# Altium footprint library PowerSupplyPE.PcbLib: 19 footprints (part 1 of 2)
Each footprint in its own frame and in the unit in brackets; x right, y up, seen from the top. Pads: shape width x height; smd on the part's side, far side on the other; paste and mask are expansions set on the pad; w line width, h text height; cw(c..) or ccw(c..) is an arc to the next point about the centre after c.
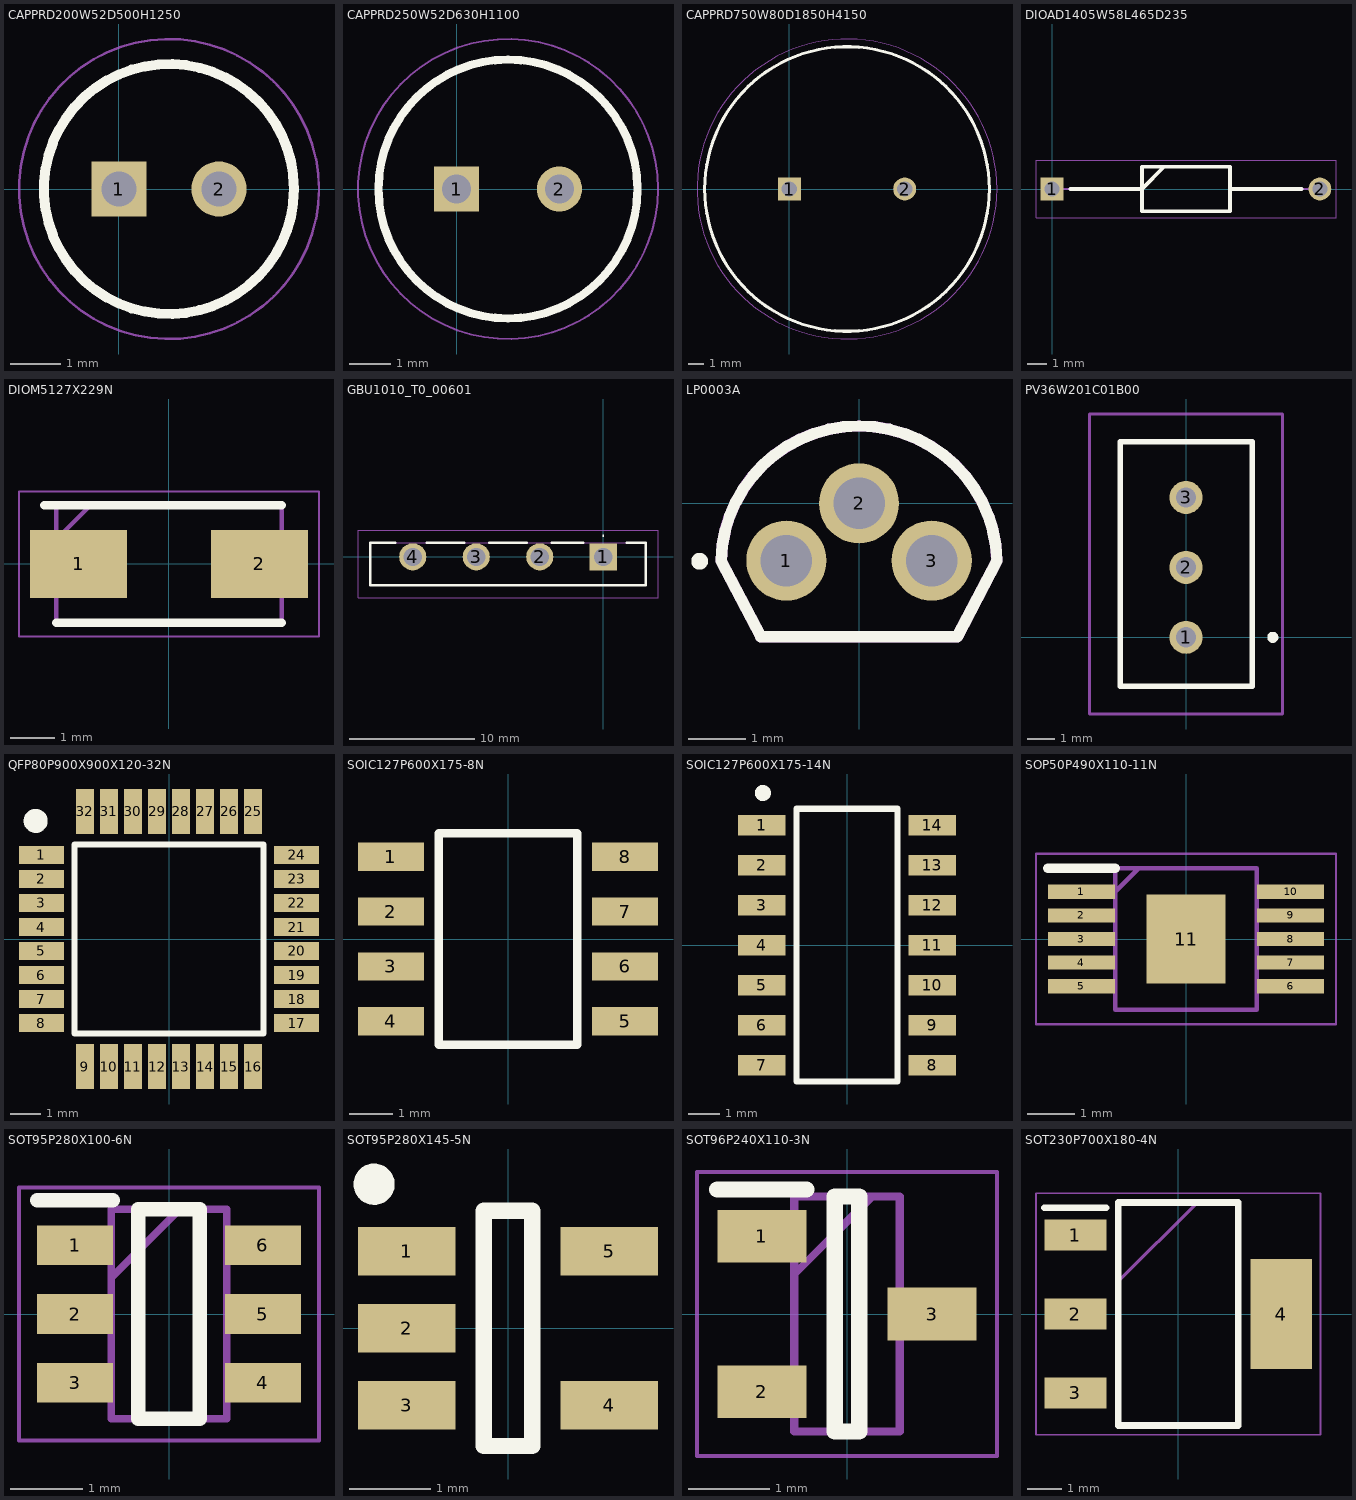
[diagram p0: the footprints below, top view; thin cyan lines are the x and y axes]

## CAPPRD200W52D500H1250 [mm]
pads (2):
  rect 1.1x1.1 hole 0.7: 1(0,0)
  round 1.1 hole 0.7: 2(2,0)
Top Overlay:
  circle w0.2: c1,0 r2.5
Mechanical 13:
  circle w0.1: c1,0 r2.5
Mechanical 15:
  circle w0.05: c1,0 r3
3D body "860010472002.stp": height 12.5, standoff -10, extent -1.738,-2.747 3.75,2.747

## CAPPRD250W52D630H1100 [mm]
pads (2):
  rect 1.1x1.1 hole 0.7: 1(0,0)
  round 1.1 hole 0.7: 2(2.5,0)
Top Overlay:
  circle w0.2: c1.25,0 r3.15
Mechanical 13:
  circle w0.1: c1.25,0 r3.15
Mechanical 15:
  circle w0.05: c1.25,0 r3.65
3D body "860020573007.stp": height 11, standoff -10, extent -2.138,-3.397 4.65,3.397

## CAPPRD750W80D1850H4150 [mm]
pads (2):
  rect 1.5x1.5 hole 1: 1(0,0)
  round 1.5 hole 1: 2(7.5,0)
Top Overlay:
  circle w0.2: c3.75,0 r9.25
Mechanical 13:
  circle w0.1: c3.75,0 r9.25
Mechanical 15:
  circle w0.05: c3.75,0 r9.75
3D body "50PK4700MEFC18X40.stp": height 41.5, standoff -10, extent -5.479,-9.245 13,9.245

## DIOAD1405W58L465D235 [mm]
pads (2):
  rect 1.2x1.2 hole 0.8: 1(0,0)
  round 1.2 hole 0.8: 2(14.1,0)
Top Overlay:
  lines w0.2: 0.95,0 4.725,0 5.9,1.175 ; 9.375,0 13.15,0 ; 4.725,-1.175 4.725,1.175 9.375,1.175 9.375,-1.175 4.725,-1.175
Mechanical 13:
  lines w0.1: 0,0 4.725,0 5.9,1.175 ; 9.375,0 14.1,0 ; 4.725,-1.175 4.725,1.175 9.375,1.175 9.375,-1.175 4.725,-1.175
Mechanical 15:
  lines w0.05: -0.85,-1.525 -0.85,1.525 14.95,1.525 14.95,-1.525 -0.85,-1.525
3D body "1N4007.stp": height 2.7, standoff -2.7, extent -0.29,-1.34 14.34,1.34

## DIOM5127X229N [mm]
pads (2):
  rect 2.2x1.55 smd: 1(-2.05,0) 2(2.05,0)
Top Overlay:
  lines w0.2: -2.825,1.332 2.552,1.332 ; -2.552,-1.332 2.552,-1.332
Mechanical 13:
  lines w0.1: -2.552,0.558 -1.778,1.332 ; -2.552,-1.332 2.552,-1.332 2.552,1.332 -2.552,1.332 -2.552,-1.332
Mechanical 15:
  lines w0.05: -3.4,-1.645 3.4,-1.645 3.4,1.645 -3.4,1.645 -3.4,-1.645
3D body "B340A-E3_61T.stp": height 2.29, standoff 0, extent -2.552,-1.332 2.552,1.332

## GBU1010_T0_00601 [mm]
pads (4):
  rect 2.175x2.175 hole 1.45: 1(0,0)
  round 2.175 hole 1.45: 2(-5.08,0) 3(-10.16,0) 4(-15.24,0)
Top Overlay:
  lines w0.1: 0,1.65 cw(c0,1.7) 0,1.75 cw(c0,1.7) 0,1.65
  lines w0.2: -16.62,1.13 -18.62,1.13 -18.62,-2.27 3.38,-2.27 3.38,1.13 1.88,1.13 ; -14.12,1.13 -11.12,1.13 ; -9.12,1.13 -6.12,1.13 ; -4.12,1.13 -1.62,1.13
Mechanical 13:
  lines w0.1: -18.62,-2.27 3.38,-2.27 3.38,1.13 -18.62,1.13 -18.62,-2.27
Mechanical 15:
  lines w0.1: -19.62,-3.27 4.38,-3.27 4.38,2.13 -19.62,2.13 -19.62,-3.27
3D body "GBU1010_T0_00601.stp": height 21.65, standoff -5, extent -18.62,-2.27 3.38,1.13

## LP0003A [mm]
pads (3):
  round 1.4 hole 0.9: 1(-1.27,-1) 2(0,0) 3(1.27,-1)
Top Overlay:
  circle w0.2: c-2.785,-1.013 r0.046
  lines w0.2: -2.41,-1 -1.715,-2.33 1.715,-2.33 2.41,-1 ; -2.41,-0.997 cw(c0,-1.06) 2.41,-1.001
Mechanical 13:
  lines w0.2: -2.41,-1.001 cw(c0,-1.06) 2.41,-0.997 ; -2.41,-1 -1.715,-2.33 1.715,-2.33 2.41,-1
3D body "LM334Z_LFT1.stp": height 8.27, standoff -9.77, extent -2.556,-2.645 2.636,1.545

## PV36W201C01B00 [mm]
pads (3):
  round 1.2 hole 0.74: 1(0,0) 2(0,2.54) 3(0,5.08)
Top Overlay:
  lines w0.2: -2.389,-1.784 2.41,-1.784 2.41,7.11 -2.389,7.11 -2.389,-1.784 ; 3.151,-0.1 cw(c3.151,0) 3.151,0.1 cw(c3.151,0) 3.151,-0.1
Mechanical 13:
  lines w0.1: -2.389,-1.784 2.41,-1.784 2.41,7.11 -2.389,7.11 -2.389,-1.784
Mechanical 15:
  lines w0.1: -3.5,-2.784 3.5,-2.784 3.5,8.11 -3.5,8.11 -3.5,-2.784
3D body "PV36W104C01B00.stp": height 10.13, standoff -5, extent -2.389,-1.784 2.41,7.11

## QFP80P900X900X120-32N [mm]
pads (32):
  rect 1.5x0.6 smd: 1(-4.25,2.8) 2(-4.25,2) 3(-4.25,1.2) 4(-4.25,0.4) 5(-4.25,-0.4) 6(-4.25,-1.2) 7(-4.25,-2) 8(-4.25,-2.8) 17(4.25,-2.8) 18(4.25,-2) 19(4.25,-1.2) 20(4.25,-0.4) 21(4.25,0.4) 22(4.25,1.2) 23(4.25,2) 24(4.25,2.8)
  rect 0.6x1.5 smd: 9(-2.8,-4.25) 10(-2,-4.25) 11(-1.2,-4.25) 12(-0.4,-4.25) 13(0.4,-4.25) 14(1.2,-4.25) 15(2,-4.25) 16(2.8,-4.25) 25(2.8,4.25) 26(2,4.25) 27(1.2,4.25) 28(0.4,4.25) 29(-0.4,4.25) 30(-1.2,4.25) 31(-2,4.25) 32(-2.8,4.25)
Top Overlay:
  circle w0.4: c-4.445,3.937 r0.2
  lines w0.2: -3.15,-3.15 -3.15,3.15 3.15,3.15 3.15,-3.15 -3.15,-3.15
3D body "ATTINY828-AU.stp": height 1.2, standoff 0, extent -4.5,-4.5 4.5,4.5

## SOIC127P600X175-8N [mm]
pads (8):
  rect 1.525x0.65 smd: 1(-2.712,1.905) 2(-2.712,0.635) 3(-2.712,-0.635) 4(-2.712,-1.905) 5(2.712,-1.905) 6(2.712,-0.635) 7(2.712,0.635) 8(2.712,1.905)
Top Overlay:
  lines w0.2: -1.6,-2.45 1.6,-2.45 1.6,2.45 -1.6,2.45 -1.6,-2.45
3D body "NE555DR.stp": height 1.75, standoff 0, extent -3,-2.45 3,2.45

## SOIC127P600X175-14N [mm]
pads (14):
  rect 1.5x0.65 smd: 1(-2.7,3.81) 2(-2.7,2.54) 3(-2.7,1.27) 4(-2.7,0) 5(-2.7,-1.27) 6(-2.7,-2.54) 7(-2.7,-3.81) 8(2.7,-3.81) 9(2.7,-2.54) 10(2.7,-1.27) 11(2.7,0) 12(2.7,1.27) 13(2.7,2.54) 14(2.7,3.81)
Top Overlay:
  circle w0.254: c-2.667,4.826 r0.127
  lines w0.2: -1.6,-4.325 -1.6,4.325 1.6,4.325 1.6,-4.325 -1.6,-4.325
3D body "MCP4922T-E_SL.stp": height 1.75, standoff 0, extent -3,-4.325 3,4.325

## SOP50P490X110-11N [mm]
pads (11):
  rect 1.425x0.3 smd: 1(-2.212,1) 2(-2.212,0.5) 3(-2.212,0) 4(-2.212,-0.5) 5(-2.212,-1) 6(2.212,-1) 7(2.212,-0.5) 8(2.212,0) 9(2.212,0.5) 10(2.212,1)
  rect 1.68x1.88 smd: 11(0,0)
Top Overlay:
  lines w0.2: -2.925,1.5 -1.5,1.5
Mechanical 13:
  lines w0.1: -1.5,1 -1,1.5 ; -1.5,-1.5 1.5,-1.5 1.5,1.5 -1.5,1.5 -1.5,-1.5
Mechanical 15:
  lines w0.05: -3.175,-1.801 3.175,-1.801 3.175,1.801 -3.175,1.801 -3.175,-1.801
3D body "LT3680EMSE#PBF.stp": height 1.1, standoff 0, extent -2.45,-1.5 2.45,1.5

## SOT95P280X100-6N [mm]
pads (6):
  rect 1.05x0.55 smd: 1(-1.3,0.95) 2(-1.3,0) 3(-1.3,-0.95) 4(1.3,-0.95) 5(1.3,0) 6(1.3,0.95)
Top Overlay:
  lines w0.2: -1.825,1.575 -0.775,1.575 ; -0.425,-1.45 0.425,-1.45 0.425,1.45 -0.425,1.45 -0.425,-1.45
Mechanical 13:
  lines w0.1: -0.8,0.5 0.15,1.45 ; -0.8,-1.45 0.8,-1.45 0.8,1.45 -0.8,1.45 -0.8,-1.45
Mechanical 15:
  lines w0.05: -2.075,-1.75 2.075,-1.75 2.075,1.75 -2.075,1.75 -2.075,-1.75
3D body "AP63205WU-7.stp": height 1, standoff 0, extent -1.4,-1.45 1.4,1.45

## SOT95P280X145-5N [mm]
pads (5):
  rect 1.2x0.6 smd: 1(-1.25,0.95) 2(-1.25,0) 3(-1.25,-0.95) 4(1.25,-0.95) 5(1.25,0.95)
Top Overlay:
  circle w0.254: c-1.651,1.778 r0.127
  lines w0.2: -0.3,-1.45 -0.3,1.45 0.3,1.45 0.3,-1.45 -0.3,-1.45
3D body "INA180A1QDBVRQ1.stp": height 1.2, standoff 0, extent -1.4,-1.45 1.4,1.45

## SOT96P240X110-3N [mm]
pads (3):
  rect 1.1x0.65 smd: 1(-1.05,0.96) 2(-1.05,-0.96) 3(1.05,0)
Top Overlay:
  lines w0.2: -1.6,1.535 -0.5,1.535 ; -0.15,-1.45 0.15,-1.45 0.15,1.45 -0.15,1.45 -0.15,-1.45
Mechanical 13:
  lines w0.1: -0.65,0.49 0.31,1.45 ; -0.65,-1.45 0.65,-1.45 0.65,1.45 -0.65,1.45 -0.65,-1.45
Mechanical 15:
  lines w0.05: -1.85,-1.75 1.85,-1.75 1.85,1.75 -1.85,1.75 -1.85,-1.75
3D body "MMBT3904-7-F.stp": height 1.1, standoff 0, extent -1.2,-1.45 1.2,1.45

## SOT230P700X180-4N [mm]
pads (4):
  rect 1.8x0.9 smd: 1(-3,2.3) 2(-3,0) 3(-3,-2.3)
  rect 1.8x3.2 smd: 4(3,0)
Top Overlay:
  lines w0.2: -3.9,3.1 -2.1,3.1 ; -1.75,-3.25 1.75,-3.25 1.75,3.25 -1.75,3.25 -1.75,-3.25
Mechanical 13:
  lines w0.1: -1.75,0.95 0.55,3.25 ; -1.75,-3.25 1.75,-3.25 1.75,3.25 -1.75,3.25 -1.75,-3.25
Mechanical 15:
  lines w0.05: -4.15,-3.525 4.15,-3.525 4.15,3.525 -4.15,3.525 -4.15,-3.525
3D body "ZVP4525GTA.stp": height 1.8, standoff 0, extent -3.5,-3.25 3.5,3.25